# Altium footprint library Fasteners & Fixings.PcbLib: 118 footprints (part 6 of 8)
Each footprint in its own frame and in the unit in brackets; x right, y up, seen from the top. Pads: shape width x height; smd on the part's side, far side on the other; paste and mask are expansions set on the pad; w line width, h text height; cw(c..) or ccw(c..) is an arc to the next point about the centre after c.
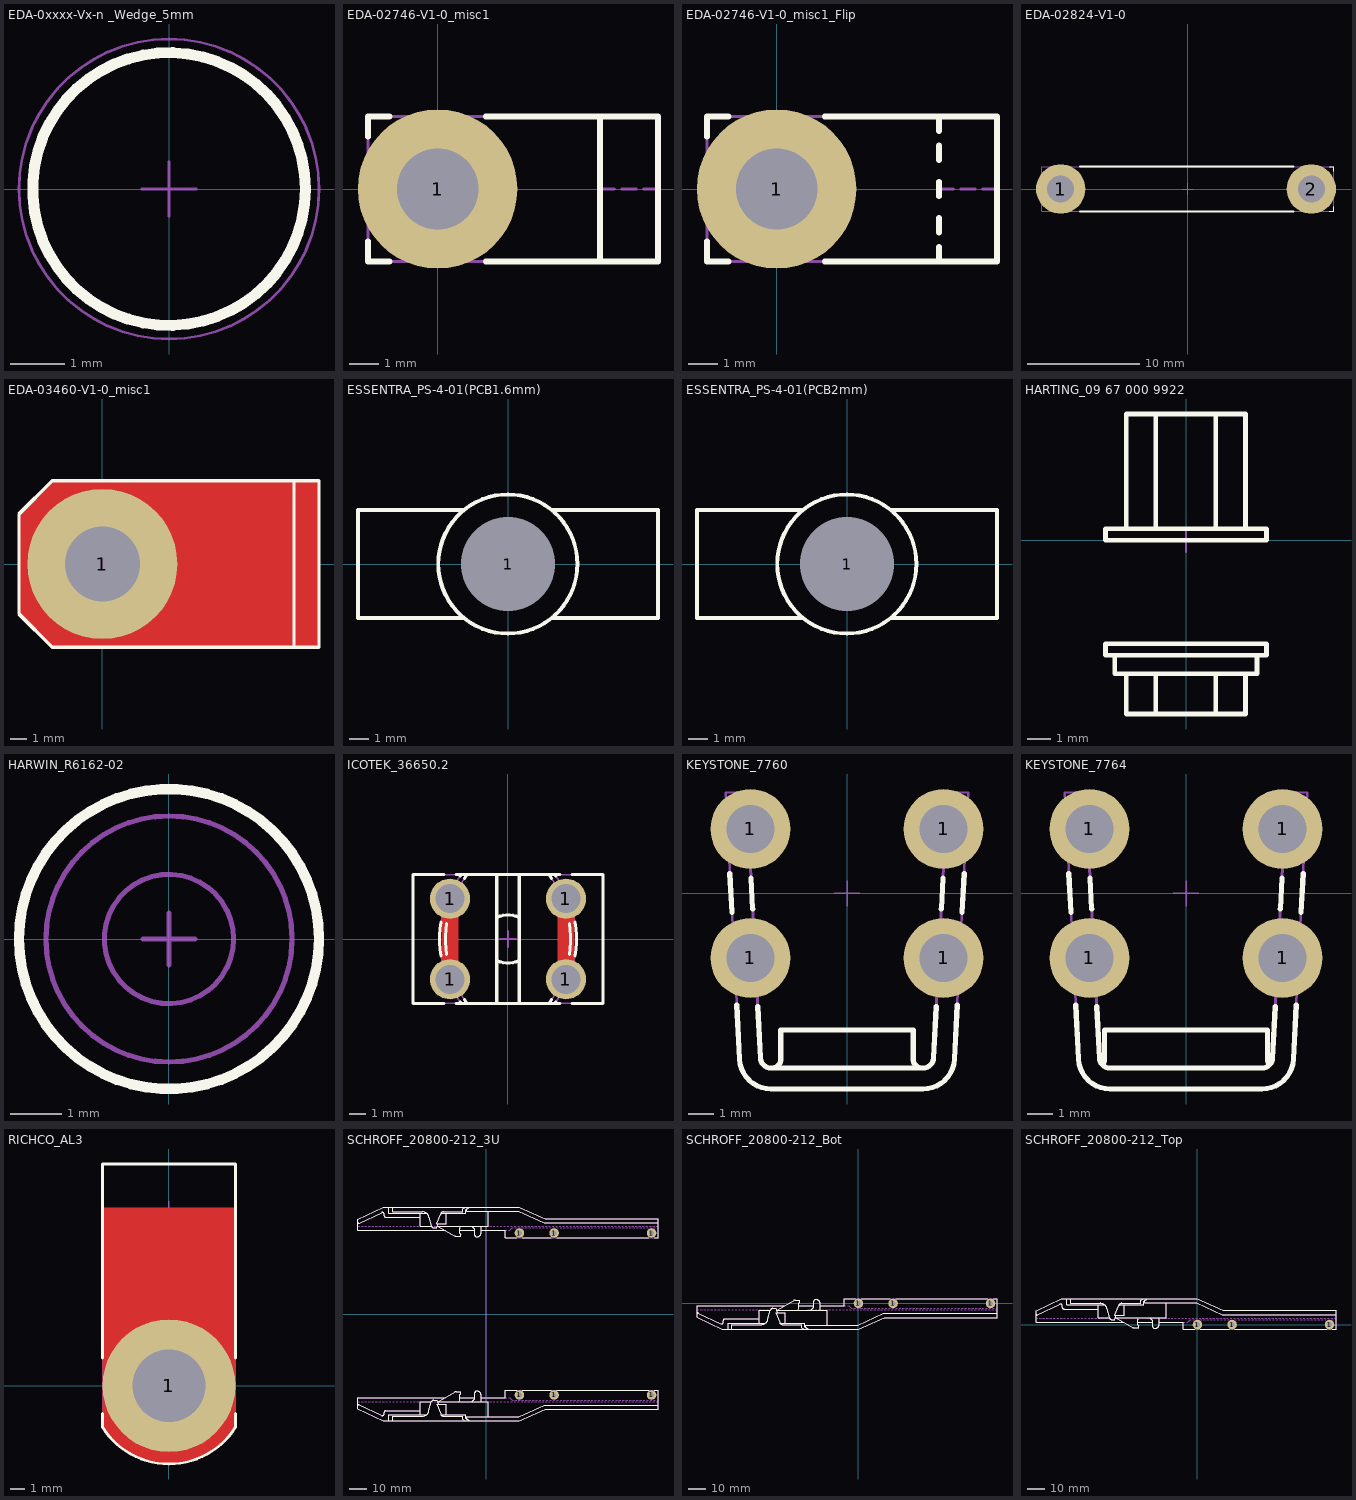
[diagram p5: the footprints below, top view; thin cyan lines are the x and y axes]

## EDA-0xxxx-Vx-n _Wedge_5mm [mm] "5mm Diameter, 2.5mm Heigh, Wedge Part For TE/EPC Beds Of Nails"
height 2.5
Top Overlay:
  circle w0.2: c0,0 r2.5
Mechanical 8:
  lines w0.05: -0.5,0 0,0 ; 0,-0.5 0,0 ; 0,0.5 0,0 ; 0.5,0 0,0
Mechanical 14:
  circle w0.1: c0,0 r2.5
Mechanical 15:
  circle w0.05: c0,0 r2.75
3D body "EDA-0xxxx-Vx-n _Wedge_5mm.stp": height 2.5, standoff 0, extent -2.5,-2.499 2.5,2.499

## EDA-02746-V1-0_misc1 [mm] "10x10x2mm Fixing Bracket with 2.7mm Holes Diameter"
height 10
pads (1):
  round 5.5 hole 2.8: 1(0,0)
Top Overlay:
  lines w0.2: -2.4,-1.8 -2.4,-2.5 -1.658,-2.5 ; -2.4,1.8 -2.4,2.5 -1.658,2.5 ; 1.658,-2.5 7.6,-2.5 7.6,2.5 1.658,2.5 ; 5.6,-2.5 5.6,2.5
Mechanical 8:
  lines w0.1: -0.5,0 0,0 ; 0,-0.5 0,0 ; 0,0.5 0,0 ; 0.5,0 0,0 ; 5.6,0 6.1,0 ; 6.35,0 6.6,0 6.85,0 ; 7.1,0 7.6,0
Mechanical 14:
  circle w0.1: c0,0 r1.35
  lines w0.1: 5.6,-2.5 5.6,2.5 ; -2.4,-2.5 7.6,-2.5 7.6,2.5 -2.4,2.5 -2.4,-2.5
3D body "EDA-02746-V1-0_misc1.stp": height 10, standoff 0, extent -2.4,-2.5 7.6,2.5

## EDA-02746-V1-0_misc1_Flip [mm] "10x10x2mm Fixing Bracket with 2.7mm Holes Diameter"
height 10
pads (1):
  round 5.5 hole 2.8: 1(0,0)
Top Overlay:
  lines w0.2: -2.4,-1.8 -2.4,-2.5 -1.658,-2.5 ; -2.4,1.8 -2.4,2.5 -1.658,2.5 ; 1.658,-2.5 7.6,-2.5 7.6,2.5 1.658,2.5 ; 5.6,-2.5 5.6,-2 ; 5.6,-1.5 5.6,-1 ; 5.6,-0.25 5.6,0.25 ; 5.6,1 5.6,1.5 ; 5.6,2 5.6,2.5
Mechanical 8:
  lines w0.1: -0.5,0 0,0 ; 0,-0.5 0,0 ; 0,0.5 0,0 ; 0.5,0 0,0 ; 5.6,0 6.1,0 ; 6.35,0 6.6,0 6.85,0 ; 7.1,0 7.6,0
Mechanical 14:
  circle w0.1: c0,0 r1.35
  lines w0.1: 5.6,-2.5 5.6,-2 ; 5.6,-1.5 5.6,-1 ; 5.6,-0.25 5.6,0.25 ; 5.6,1 5.6,1.5 ; 5.6,2 5.6,2.5 ; -2.4,-2.5 7.6,-2.5 7.6,2.5 -2.4,2.5 -2.4,-2.5
3D body "EDA-02746-V1-0_misc1_Flip.stp": height 2, standoff -8, extent -2.4,-2.5 7.6,2.5

## EDA-02824-V1-0 [mm] "Retaining Clip for VTTX (and VTRX) Module"
height 6.6
pads (2):
  round 4.4 hole 2.4: 1(-11.3,0) 2(11,0)
Top Overlay:
  lines w0.1: 12.582,-2 13,-2 13,-1.582 ; 12.582,2 13,2 13,1.582
  lines w0.2: -9.561,-2 9.418,-2 ; -9.561,2 9.418,2
Mechanical 8:
  lines w0.1: -11.8,0 -11.3,0 ; -11.3,-0.5 -11.3,0 ; -11.3,0.5 -11.3,0 ; -10.8,0 -11.3,0 ; -0.5,0 0,0 ; 0,-0.5 0,0 ; 0,0.5 0,0 ; 0.5,0 0,0 ; 10.5,0 11,0 ; 11,-0.5 11,0 ; 11,0.5 11,0 ; 11.5,0 11,0
Mechanical 14:
  circle w0.1: c-11.3,0 r1
  circle w0.1: c11,0 r1
  lines w0.1: -13,-2 13,-2 13,2 -13,2 -13,-2
3D body "EDA-02824-V1-0.stp": height 6.6, standoff 0, extent -13,-2 13,2

## EDA-03460-V1-0_misc1 [mm] "18x30x10mm Fixing Bracket with 4.2mm Holes Diameter"
height 30
pads (1):
  round 9 hole 4.5: 1(0,0)
Top Layer:
  region: -5,3 -3,5 13,5 13,-5 -3,-5 -5,-3
Top Overlay:
  lines w0.2: 11.5,-5 11.5,5 ; -5,-3 -5,3 -3,5 13,5 13,-5 -3,-5 -5,-3
Mechanical 8:
  lines w0.05: -0.5,0 0,0 ; 0,-0.5 0,0 ; 0,0.5 0,0 ; 0.5,0 0,0 ; 11.75,0 12,0 12.25,0 ; 12.5,0 13,0
Mechanical 14:
  circle w0.1: c0,0 r2.1
  lines w0.1: 11.5,-5 11.5,5 ; -5,-3 -5,3 -3,5 13,5 13,-5 -3,-5 -5,-3
3D body "EDA-03460-V1-0_misc1.stp": height 30, standoff 0, extent -5,-5 13,5

## ESSENTRA_PS-4-01(PCB1.6mm) [mm] "Push Spacer for 0.79-1.98mm Panel Thickness, Minimum Spacing Height 6.4mm"
height 6.4
pads (1):
  round 1 hole 4.8 unplated mask+1.9: 1(0,0)
Top Overlay:
  circle w0.2: c-0.015,0 r3.55
  lines w0.2: -2.266,-2.745 -7.661,-2.745 -7.661,2.745 -2.266,2.745 ; 2.236,-2.745 7.647,-2.745 7.647,2.745 2.236,2.745
Mechanical 8:
  lines w0.1: -0.5,0 0,0 ; 0,-0.5 0,0 ; 0,0.5 0,0 ; 0.5,0 0,0
Mechanical 14:
  circle w0.1: c-0.015,0 r3.55
  lines w0.1: -2.266,-2.745 -7.661,-2.745 -7.661,2.745 -2.266,2.745 ; 2.236,-2.745 7.647,-2.745 7.647,2.745 2.236,2.745
3D body "ESSENTRA_PS-4-01(PCB1.6mm).stp": height 7.56, standoff -6.88, extent -7.608,-3.548 7.596,3.548

## ESSENTRA_PS-4-01(PCB2mm) [mm] "Push Spacer for 0.79-1.98mm Panel Thickness, Minimum Spacing Height 6.4mm"
height 6.4
pads (1):
  round 1 hole 4.8 unplated mask+1.9: 1(0,0)
Top Overlay:
  circle w0.2: c-0.015,0 r3.55
  lines w0.2: -2.266,-2.745 -7.661,-2.745 -7.661,2.745 -2.266,2.745 ; 2.236,-2.745 7.647,-2.745 7.647,2.745 2.236,2.745
Mechanical 8:
  lines w0.1: -0.5,0 0,0 ; 0,-0.5 0,0 ; 0,0.5 0,0 ; 0.5,0 0,0
Mechanical 14:
  circle w0.1: c-0.015,0 r3.55
  lines w0.1: -2.266,-2.745 -7.661,-2.745 -7.661,2.745 -2.266,2.745 ; 2.236,-2.745 7.647,-2.745 7.647,2.745 2.236,2.745
3D body "ESSENTRA_PS-4-01(PCB2mm).stp": height 7.16, standoff -7.28, extent -7.66,-3.548 7.646,3.548

## HARTING_09 67 000 9922 [mm] "13mm Length, UNC 4-40/UNV4-40 D-Sub Female Screw Lock"
height 7
Top Overlay:
  lines w0.2: -3.1,-5 -3.1,-5.8 3.1,-5.8 ; -2.607,-5.8 -2.607,-7.55 2.589,-7.55 2.589,-5.8 ; -2.607,0.5 -2.607,5.5 2.589,5.5 2.589,0.5 ; -1.308,-7.55 -1.308,-5.8 ; -1.308,0.5 -1.308,5.5 ; 1.29,-7.55 1.29,-5.8 ; 1.29,0.5 1.29,5.5 ; 3.09,-5.8 3.09,-5 ; -3.5,-5 3.5,-5 3.5,-4.5 -3.5,-4.5 -3.5,-5 ; -3.5,0 3.5,0 3.5,0.5 -3.5,0.5 -3.5,0
Mechanical 8:
  lines w0.1: -0.5,0 0,0 ; 0,-0.5 0,0 ; 0,0.5 0,0 ; 0.5,0 0,0
Mechanical 14:
  lines w0.1: -3.1,-5 -3.1,-5.8 3.1,-5.8 ; -2.607,-5.8 -2.607,-7.55 2.589,-7.55 2.589,-5.8 ; -2.607,0.5 -2.607,5.5 2.589,5.5 2.589,0.5 ; -1.308,-7.55 -1.308,-5.8 ; -1.308,0.5 -1.308,5.5 ; 1.29,-7.55 1.29,-5.8 ; 1.29,0.5 1.29,5.5 ; 3.09,-5.8 3.09,-5 ; -3.5,-5 3.5,-5 3.5,-4.5 -3.5,-4.5 -3.5,-5 ; -3.5,0 3.5,0 3.5,0.5 -3.5,0.5 -3.5,0
3D body "HARTING_09 67 000 9922_Part2.stp": height 3.5, standoff -3.5, extent -3.5,-7.55 3.5,-4.5
3D body "HARTING_09 67 000 9922_Part1.stp": height 3.5, standoff -3.5, extent -3.5,-7.5 3.5,5.5

## HARWIN_R6162-02 [mm] "Metric Female Unthreaded Round Brass Spacer/Pillar, Length 6mm, External Dia. 4.76mm, Internal Dia. 2.54mm"
height 6
Top Overlay:
  circle w0.2: c0,0 r2.9
Mechanical 8:
  lines w0.1: -0.5,0 0,0 ; 0,-0.5 0,0 ; 0,0.5 0,0 ; 0.5,0 0,0
Mechanical 14:
  circle w0.1: c0,0 r2.38
  circle w0.1: c0,0 r1.25
3D body "HARWIN_R6162-02.stp": height 6, standoff 0, extent -2.38,-2.38 2.38,2.38

## ICOTEK_36650.2 [mm] "EMC Shield Cable Clamp (3-6mm Diameter Clamping range)"
height 20
pads (4):
  round 2.5 hole 1.8: 1(-3.6,-2.5) 1(-3.6,2.5) 1(3.6,-2.5) 1(3.6,2.5)
Top Layer:
  region: 3.1,3.3 4.1,3.3 4.1,-3.3 3.1,-3.3
  region: -4.1,3.3 -3.1,3.3 -3.1,-3.3 -4.1,-3.3
Top Overlay:
  lines w0.2: -4.165,-1.057 cw(c2.346,0) -4.165,1.057 ; -3.99,-4 -5.9,-4 -5.9,4 -3.99,4 ; -3.81,-0.964 cw(c2.715,0) -3.81,0.964 ; -3.209,-4 3.21,-4 ; -3.209,4 3.21,4 ; -2.964,-3.913 ccw(c2.346,0) -2.899,-4 ; -2.964,3.913 cw(c2.346,0) -2.899,4 ; -2.702,-3.764 ccw(c2.715,0) -2.53,-4 ; -2.702,3.764 cw(c2.715,0) -2.53,4 ; -0.7,-4 -0.7,4 ; -0.7,-1.327 ccw(c0,0) 0.7,-1.327 ; -0.7,1.327 cw(c0,0) 0.7,1.327 ; 0.7,-4 0.7,4 ; 2.53,-4 ccw(c-2.715,0) 2.702,-3.764 ; 2.53,4 cw(c-2.715,0) 2.702,3.764 ; 2.899,-4 ccw(c-2.346,0) 2.964,-3.913 ; 2.899,4 cw(c-2.346,0) 2.964,3.913 ; 3.811,-0.964 ccw(c-2.715,0) 3.811,0.964 ; 3.991,-4 5.9,-4 ; 3.991,4 5.9,4 ; 4.165,-1.057 ccw(c-2.346,0) 4.165,1.057 ; 5.9,-4 5.9,4 ; 5.9,-4 5.9,4
Mechanical 8:
  lines w0.1: -4.1,-2.5 -3.6,-2.5 ; -4.1,2.5 -3.6,2.5 ; -3.6,-3 -3.6,-2.5 ; -3.6,-2 -3.6,-2.5 ; -3.6,2 -3.6,2.5 ; -3.6,3 -3.6,2.5 ; -3.1,-2.5 -3.6,-2.5 ; -3.1,2.5 -3.6,2.5 ; -0.5,0 0,0 ; 0,-0.5 0,0 ; 0,0.5 0,0 ; 0.5,0 0,0 ; 3.1,-2.5 3.6,-2.5 ; 3.1,2.5 3.6,2.5 ; 3.6,-3 3.6,-2.5 ; 3.6,-2 3.6,-2.5 ; 3.6,2 3.6,2.5 ; 3.6,3 3.6,2.5 ; 4.1,-2.5 3.6,-2.5 ; 4.1,2.5 3.6,2.5
Mechanical 14:
  lines w0.1: -2.899,-4 cw(c2.346,0) -2.899,4 ; -2.53,-4 cw(c2.715,0) -2.53,4 ; -0.7,-4 -0.7,4 ; -0.7,-1.327 ccw(c0,0) 0.7,-1.327 ; -0.7,1.327 cw(c0,0) 0.7,1.327 ; 0.7,-4 0.7,4 ; 2.53,-4 ccw(c-2.715,0) 2.53,4 ; 2.899,-4 ccw(c-2.346,0) 2.899,4 ; 5.9,-4 5.9,4 ; 5.9,-4 5.9,4 ; 5.9,-4 -5.9,-4 -5.9,4 5.9,4
3D body "ICOTEK_36650.2.stp": height 17.73, standoff -2.6, extent -5.9,-4 5.9,4

## KEYSTONE_7760 [mm] "M3 PC Mount Terminal, Horizontal"
height 7.92
pads (4):
  round 3.1 hole 1.85: 1(-3.745,-2.5) 1(-3.745,2.5) 1(3.745,-2.5) 1(3.745,2.5)
Top Overlay:
  lines w0.2: -4.543,0.776 -4.463,-0.741 ; -4.276,-4.324 -4.166,-6.425 ccw(c-2.948,-6.361) -2.948,-7.58 2.948,-7.58 ccw(c2.948,-6.361) 4.166,-6.425 4.276,-4.324 ; -3.72,0.6 -3.657,-0.602 ; -3.459,-4.378 -3.354,-6.382 ccw(c-2.948,-6.361) -2.948,-6.767 2.948,-6.767 ccw(c2.948,-6.361) 3.354,-6.382 3.459,-4.378 ; -2.908,-6.767 ccw(c-2.908,-6.425) -2.565,-6.425 -2.565,-5.294 2.565,-5.294 2.565,-6.425 ccw(c2.908,-6.425) 2.908,-6.767 ; 3.657,-0.602 3.72,0.6 ; 4.463,-0.741 4.543,0.776
Mechanical 8:
  lines w0.05: -4.245,-2.5 -3.745,-2.5 ; -4.245,2.5 -3.745,2.5 ; -3.745,-3 -3.745,-2.5 ; -3.745,-2 -3.745,-2.5 ; -3.745,2 -3.745,2.5 ; -3.745,3 -3.745,2.5 ; -3.245,-2.5 -3.745,-2.5 ; -3.245,2.5 -3.745,2.5 ; -0.5,0 0,0 ; 0,-0.5 0,0 ; 0,0.5 0,0 ; 0.5,0 0,0 ; 3.245,-2.5 3.745,-2.5 ; 3.245,2.5 3.745,2.5 ; 3.745,-3 3.745,-2.5 ; 3.745,-2 3.745,-2.5 ; 3.745,2 3.745,2.5 ; 3.745,3 3.745,2.5 ; 4.245,-2.5 3.745,-2.5 ; 4.245,2.5 3.745,2.5
Mechanical 14:
  lines w0.1: -2.908,-6.767 ccw(c-2.908,-6.425) -2.565,-6.425 -2.565,-5.294 2.565,-5.294 2.565,-6.425 ccw(c2.908,-6.425) 2.908,-6.767 ; -4.707,3.901 -3.895,3.943 -3.354,-6.382 ccw(c-2.948,-6.361) -2.948,-6.767 2.948,-6.767 ccw(c2.948,-6.361) 3.354,-6.382 3.895,3.943 4.707,3.901 4.166,-6.425 cw(c2.948,-6.361) 2.948,-7.58 -2.948,-7.58 cw(c-2.948,-6.361) -4.166,-6.425 -4.707,3.901
3D body "KEYSTONE_7760.stp": height 7.92, standoff -5.08, extent -4.707,-7.58 4.707,3.943

## KEYSTONE_7764 [mm] "M4 PC Mount Terminal, Horizontal"
height 7.92
pads (4):
  round 3.1 hole 1.85: 1(-3.745,-2.5) 1(-3.745,2.5) 1(3.745,-2.5) 1(3.745,2.5)
Top Overlay:
  lines w0.2: -4.543,0.776 -4.463,-0.741 ; -4.276,-4.324 -4.166,-6.425 ccw(c-2.948,-6.361) -2.948,-7.58 2.948,-7.58 ccw(c2.948,-6.361) 4.166,-6.425 4.276,-4.324 ; -3.72,0.6 -3.657,-0.602 ; -3.459,-4.378 -3.354,-6.382 ccw(c-2.948,-6.361) -2.948,-6.767 2.948,-6.767 ccw(c2.948,-6.361) 3.354,-6.382 3.459,-4.378 ; -3.241,-6.643 ccw(c-3.505,-6.425) -3.162,-6.425 -3.162,-5.294 3.162,-5.294 3.162,-6.425 ccw(c3.505,-6.425) 3.241,-6.643 ; 3.657,-0.602 3.72,0.6 ; 4.463,-0.741 4.543,0.776 ; -2.565,-5.294 2.565,-5.294 -2.565,-5.294
Mechanical 8:
  lines w0.05: -4.245,-2.5 -3.745,-2.5 ; -4.245,2.5 -3.745,2.5 ; -3.745,-3 -3.745,-2.5 ; -3.745,-2 -3.745,-2.5 ; -3.745,2 -3.745,2.5 ; -3.745,3 -3.745,2.5 ; -3.245,-2.5 -3.745,-2.5 ; -3.245,2.5 -3.745,2.5 ; -0.5,0 0,0 ; 0,-0.5 0,0 ; 0,0.5 0,0 ; 0.5,0 0,0 ; 3.245,-2.5 3.745,-2.5 ; 3.245,2.5 3.745,2.5 ; 3.745,-3 3.745,-2.5 ; 3.745,-2 3.745,-2.5 ; 3.745,2 3.745,2.5 ; 3.745,3 3.745,2.5 ; 4.245,-2.5 3.745,-2.5 ; 4.245,2.5 3.745,2.5
Mechanical 14:
  lines w0.1: -3.241,-6.643 ccw(c-3.505,-6.425) -3.162,-6.425 -3.162,-5.294 3.162,-5.294 3.162,-6.425 ccw(c3.505,-6.425) 3.241,-6.643 ; -2.565,-5.294 2.565,-5.294 ; -4.707,3.901 -3.895,3.943 -3.354,-6.382 ccw(c-2.948,-6.361) -2.948,-6.767 2.948,-6.767 ccw(c2.948,-6.361) 3.354,-6.382 3.895,3.943 4.707,3.901 4.166,-6.425 cw(c2.948,-6.361) 2.948,-7.58 -2.948,-7.58 cw(c-2.948,-6.361) -4.166,-6.425 -4.707,3.901
3D body "KEYSTONE_7764.stp": height 7.92, standoff -5.08, extent -4.707,-7.58 4.707,3.943

## RICHCO_AL3 [mm] "Aluminium Cable Clamp 4.8mm Diameter, Fixing Hole 5.2mm"
height 5.6
pads (1):
  round 9.5 hole 5.2: 1(0,0)
Top Layer:
  region: -4.75,-2.966 -4.75,12.7 4.75,12.7 4.75,-2.966 4.562,-3.267 4.113,-3.817 3.598,-4.306 3.026,-4.725 2.405,-5.07 1.746,-5.333 1.059,-5.51 0.355,-5.6 -0.355,-5.6 -1.059,-5.51 -1.746,-5.333 -2.405,-5.07 -3.026,-4.725 -3.598,-4.306 -4.113,-3.817 -4.562,-3.267
Top Overlay:
  lines w0.2: -4.75,-1.99 -4.75,-2.966 ccw(c0,0) 4.75,-2.966 4.75,-1.99 ; -4.75,1.99 -4.75,15.863 4.75,15.863 4.75,1.99
Mechanical 8:
  circle w0.1: c0,0 r4.75
  lines w0.1: -4.75,12.7 4.75,12.7 ; -0.5,0 0,0 ; -0.5,4.933 0,4.933 ; -0.5,12.7 0,12.7 ; 0,-0.5 0,0 ; 0,0.5 0,0 ; 0,4.433 0,4.933 ; 0,5.433 0,4.933 ; 0,12.2 0,12.7 ; 0,13.2 0,12.7 ; 0.5,0 0,0 ; 0.5,4.933 0,4.933 ; 0.5,12.7 0,12.7 ; -4.75,-2.966 ccw(c0,0) 4.75,-2.966 4.75,15.863 -4.75,15.863 -4.75,-2.966
Mechanical 14:
  circle w0.1: c0,0 r2.6
  lines w0.1: -4.75,-2.966 ccw(c0,0) 4.75,-2.966 4.75,15.863 -4.75,15.863 -4.75,-2.966
3D body "RICHCO_AL3.stp": height 6.4, standoff 0, extent -4.75,-5.6 4.75,15.9

## SCHROFF_20800-212_3U [mm] "Long Guide Rail (173mm)  With Locking Lever (Include Rail, Rail Bottom, Panhead screw M2.5 And Square nut M2.5)"
height 14.9
pads (6):
  round 5.5 hole 2.8: 1(19.27,-46.7) 1(19.27,46.7) 1(39.27,-46.7) 1(39.27,46.7) 1(95.47,-46.7) 1(95.47,46.7)
Top Overlay:
  lines w0.2: -53.73,-61.7 -53.73,-58.9 -36.793,-58.9 ccw(c-36.793,-54.9) -32.93,-55.935 -31.53,-50.712 cw(c-30.081,-51.1) -30.081,-49.6 -28.498,-49.6 -27.53,-52 -28.53,-52 ; -53.73,61.7 -53.73,58.9 -36.793,58.9 cw(c-36.793,54.9) -32.93,55.935 -31.53,50.712 ccw(c-30.081,51.1) -30.081,49.6 -28.498,49.6 -27.53,52 -28.53,52 ; -34.533,-58.2 -37.83,-58.2 ; -34.533,58.2 -37.83,58.2 ; -31.495,-50.6 -37.83,-50.6 -37.83,-58.2 ; -31.495,50.6 -37.83,50.6 -37.83,58.2 ; -28.095,-50.6 1.37,-50.6 1.37,-59.2 ; -28.095,50.6 1.37,50.6 1.37,59.2 ; -27.755,-50.6 -19.299,-45.718 -18.174,-45.068 cw(c-17.174,-46.8) -17.174,-44.8 -14.63,-44.8 -14.63,-45.718 -14.63,-46.1 -15.13,-46.6 -15.13,-49.4 -15.543,-50.6 ; -27.755,50.6 -19.299,45.718 -18.174,45.068 ccw(c-17.174,46.8) -17.174,44.8 -14.63,44.8 -14.63,45.718 -14.63,46.1 -15.13,46.6 -15.13,49.4 -15.543,50.6 ; -25.941,-58.172 ccw(c-25.53,-55.2) -25.53,-58.2 -23.03,-58.2 -23.03,-52 -28.53,-52 ; -25.941,58.172 cw(c-25.53,55.2) -25.53,58.2 -23.03,58.2 -23.03,52 -28.53,52 ; -25.918,-58.2 -11.83,-58.2 -11.83,-60.257 -9.33,-61.7 -11.03,-60.719 -11.03,-59.2 18.793,-59.2 33.693,-52.5 99.17,-52.5 ; -25.918,58.2 -11.83,58.2 -11.83,60.257 -9.33,61.7 -11.03,60.719 -11.03,59.2 18.793,59.2 33.693,52.5 99.17,52.5 ; -23.598,-48.2 -73.83,-48.2 -73.83,-54.7 ; -23.598,48.2 -73.83,48.2 -73.83,54.7 ; -15.13,-48.2 -6.43,-48.2 ; -15.13,48.2 -6.43,48.2 ; -11.73,-61.7 -13.43,-60.719 -13.43,-58.9 -24.398,-58.9 cw(c-24.398,-56.9) -26.253,-57.648 -28.53,-52 ; -11.73,61.7 -13.43,60.719 -13.43,58.9 -24.398,58.9 ccw(c-24.398,56.9) -26.253,57.648 -28.53,52 ; -8.23,-50.6 -6.723,-49.093 ccw(c-7.43,-48.386) -6.43,-48.386 -6.43,-45.506 cw(c-5.423,-45.503) -5.33,-44.5 cw(c-5.33,-47) -2.83,-47 -2.83,-50.6 ; -8.23,50.6 -6.723,49.093 cw(c-7.43,48.386) -6.43,48.386 -6.43,45.506 ccw(c-5.423,45.503) -5.33,44.5 ccw(c-5.33,47) -2.83,47 -2.83,50.6 ; -2.83,-48.2 10.97,-48.2 ; -2.83,48.2 10.97,48.2 ; 17.648,-44 10.97,-44 ; 17.648,44 10.97,44 ; 20.893,-44 37.648,-44 ; 20.893,44 37.648,44 ; 40.893,-44 93.848,-44 ; 40.893,44 93.848,44 ; 97.093,-44 99.17,-44 99.17,-55 34.17,-55 19.27,-61.7 -59.23,-61.7 ; 97.093,44 99.17,44 99.17,55 34.17,55 19.27,61.7 -59.23,61.7 ; -73.83,-54.7 -73.83,-52.722 cw(c-73.33,-52.722) -73.114,-52.271 -60.162,-58.481 ccw(c-59.73,-57.579) -58.73,-57.579 -58.73,-56.7 cw(c-57.73,-56.7) -57.73,-55.7 -37.83,-55.7 -37.83,-58.2 ; -73.83,-54.7 -59.23,-61.7 ; -73.83,54.7 -73.83,52.722 ccw(c-73.33,52.722) -73.114,52.271 -60.162,58.481 cw(c-59.73,57.579) -58.73,57.579 -58.73,56.7 ccw(c-57.73,56.7) -57.73,55.7 -37.83,55.7 -37.83,58.2 ; -73.83,54.7 -59.23,61.7 ; -59.23,-61.7 -56.23,-61.7 -56.23,-58.2 -37.83,-58.2 ; -59.23,61.7 -56.23,61.7 -56.23,58.2 -37.83,58.2 ; 10.97,-48.2 10.97,-44 ; 10.97,-48.2 10.97,-44 ; 10.97,44 10.97,48.2 ; 10.97,44 10.97,48.2
Mechanical 8:
  drawing of 291 lines, arcs and shapes, not listed
  text "PCB Edge" at -1.425,-5.275 h1.5
Mechanical 14:
  drawing of 160 lines, arcs and shapes, not listed
3D body "SCHROFF_20800-212.stp": height 12.5, standoff -3.5, extent -73.83,-61.7 99.17,61.7

## SCHROFF_20800-212_Bot [mm] "Bottm Long Guide Rail (173mm)  With Locking Lever"
height 14.9
pads (3):
  round 5.5 hole 2.8: 1(0,0) 1(20,0) 1(76.2,0)
Top Overlay:
  lines w0.2: -73,-15 -73,-12.2 -56.063,-12.2 ccw(c-56.063,-8.2) -52.2,-9.235 -50.8,-4.012 cw(c-49.351,-4.4) -49.351,-2.9 -47.768,-2.9 -46.8,-5.3 -47.8,-5.3 ; -53.803,-11.5 -57.1,-11.5 ; -50.765,-3.9 -57.1,-3.9 -57.1,-11.5 ; -47.365,-3.9 -17.9,-3.9 -17.9,-12.5 ; -47.025,-3.9 -38.569,0.982 -37.444,1.632 cw(c-36.444,-0.1) -36.444,1.9 -33.9,1.9 -33.9,0.982 -33.9,0.6 -34.4,0.1 -34.4,-2.7 -34.813,-3.9 ; -45.211,-11.472 ccw(c-44.8,-8.5) -44.8,-11.5 -42.3,-11.5 -42.3,-5.3 -47.8,-5.3 ; -45.188,-11.5 -31.1,-11.5 -31.1,-13.557 -28.6,-15 -30.3,-14.019 -30.3,-12.5 -0.477,-12.5 14.423,-5.8 79.9,-5.8 ; -42.868,-1.5 -93.1,-1.5 -93.1,-8 ; -34.4,-1.5 -25.7,-1.5 ; -31,-15 -32.7,-14.019 -32.7,-12.2 -43.668,-12.2 cw(c-43.668,-10.2) -45.523,-10.948 -47.8,-5.3 ; -27.5,-3.9 -25.993,-2.393 ccw(c-26.7,-1.686) -25.7,-1.686 -25.7,1.194 cw(c-24.693,1.197) -24.6,2.2 cw(c-24.6,-0.3) -22.1,-0.3 -22.1,-3.9 ; -22.1,-1.5 -8.3,-1.5 ; -1.622,2.7 -8.3,2.7 ; 1.622,2.7 18.378,2.7 ; 21.623,2.7 74.578,2.7 ; 77.823,2.7 79.9,2.7 79.9,-8.3 14.9,-8.3 0,-15 -78.5,-15 ; -93.1,-8 -78.5,-15 ; -93.1,-8 -93.1,-6.022 cw(c-92.6,-6.022) -92.384,-5.571 -79.432,-11.781 ccw(c-79,-10.879) -78,-10.879 -78,-10 cw(c-77,-10) -77,-9 -57.1,-9 -57.1,-11.5 ; -78.5,-15 -75.5,-15 -75.5,-11.5 -57.1,-11.5 ; -8.3,-1.5 -8.3,2.7 ; -8.3,-1.5 -8.3,2.7
Mechanical 8:
  lines w0.1: -93.1,-3.8 -92.1,-3.8 ; -91.1,-3.8 -90.1,-3.8 ; -89.1,-3.8 -88.1,-3.8 ; -87.1,-3.8 -86.1,-3.8 ; -85.1,-3.8 -84.1,-3.8 ; -83.1,-3.8 -82.1,-3.8 ; -81.1,-3.8 -80.1,-3.8 ; -79.1,-3.8 -78.1,-3.8 ; -77.1,-3.8 -76.1,-3.8 ; -75.1,-3.8 -74.1,-3.8 ; -73.1,-3.8 -72.1,-3.8 ; -71.1,-3.8 -70.1,-3.8 ; -69.1,-3.8 -68.1,-3.8 ; -67.1,-3.8 -66.1,-3.8 ; -65.1,-3.8 -64.1,-3.8 ; -63.1,-3.8 -62.1,-3.8 ; -61.1,-3.8 -60.1,-3.8 ; -59.1,-3.8 -58.1,-3.8 ; -57.1,-3.8 -56.1,-3.8 ; -55.1,-3.8 -54.1,-3.8 ; -53.1,-3.8 -52.1,-3.8 ; -29.1,-3.8 -28.1,-3.8 ; -27.1,-3.8 -26.1,-3.8 ; -25.1,-3.8 -24.1,-3.8 ; -23.1,-3.8 -22.1,-3.8 ; -21.1,-3.8 -20.1,-3.8 ; -19.1,-3.8 -18.1,-3.8 ; -17.1,-3.8 -16.1,-3.8 ; -15.1,-3.8 -14.1,-3.8 ; -13.1,-3.8 -12.1,-3.8 ; -11.1,-3.8 -10.1,-3.8 ; -9.1,-3.8 -8.1,-3.8 ; -8.3,-1.5 -7.3,-1.5 ; -7.1,-3.8 -6.1,-3.8 ; -6.3,-1.5 -5.5,-1.5 -4.1,-2.9 -3.6,-2.9 ; -5.1,-3.8 -4.1,-3.8 ; -3.1,-3.8 -2.1,-3.8 ; -2.6,-2.9 -1.6,-2.9 ; -1.1,-3.8 -0.1,-3.8 ; -0.6,-2.9 0.4,-2.9 ; -0.5,0 0,0 ; 0,0.5 0,0 ; 0.5,0 0,0 ; 0.9,-3.8 1.9,-3.8 ; 1.4,-2.9 2.4,-2.9 ; 2.9,-3.8 3.9,-3.8 ; 3.4,-2.9 4.4,-2.9 ; 4.9,-3.8 5.9,-3.8 ; 5.4,-2.9 6.4,-2.9 ; 6.9,-3.8 7.9,-3.8 ; 7.4,-2.9 8.4,-2.9 ; 8.9,-3.8 9.9,-3.8 ; 9.4,-2.9 10.4,-2.9 ; 10.9,-3.8 11.9,-3.8 ; 11.4,-2.9 12.4,-2.9 ; 12.9,-3.8 13.9,-3.8 ; 13.4,-2.9 14.4,-2.9 ; 14.9,-3.8 15.9,-3.8 ; 15.4,-2.9 16.4,-2.9 ; 16.9,-3.8 17.9,-3.8 ; 17.4,-2.9 18.4,-2.9 ; 18.9,-3.8 19.9,-3.8 ; 19.4,-2.9 20.4,-2.9 ; 19.5,0 20,0 ; 20,-0.5 20,0 ; 20,0.5 20,0 ; 20.5,0 20,0 ; 20.9,-3.8 21.9,-3.8 ; 21.4,-2.9 22.4,-2.9 ; 22.9,-3.8 23.9,-3.8 ; 23.4,-2.9 24.4,-2.9 ; 24.9,-3.8 25.9,-3.8 ; 25.4,-2.9 26.4,-2.9 ; 26.9,-3.8 27.9,-3.8 ; 27.4,-2.9 28.4,-2.9 ; 28.9,-3.8 29.9,-3.8 ; 29.4,-2.9 30.4,-2.9 ; 30.9,-3.8 31.9,-3.8 ; 31.4,-2.9 32.4,-2.9 ; 32.9,-3.8 33.9,-3.8 ; 33.4,-2.9 34.4,-2.9 ; 34.9,-3.8 35.9,-3.8 ; 35.4,-2.9 36.4,-2.9 ; 36.9,-3.8 37.9,-3.8 ; 37.4,-2.9 38.4,-2.9 ; 38.9,-3.8 39.9,-3.8 ; 39.4,-2.9 40.4,-2.9 ; 40.9,-3.8 41.9,-3.8 ; 41.4,-2.9 42.4,-2.9 ; 42.9,-3.8 43.9,-3.8 ; 43.4,-2.9 44.4,-2.9 ; 44.9,-3.8 45.9,-3.8 ; 45.4,-2.9 46.4,-2.9 ; 46.9,-3.8 47.9,-3.8 ; 47.4,-2.9 48.4,-2.9 ; 48.9,-3.8 49.9,-3.8 ; 49.4,-2.9 50.4,-2.9 ; 50.9,-3.8 51.9,-3.8 ; 51.4,-2.9 52.4,-2.9 ; 52.9,-3.8 53.9,-3.8 ; 53.4,-2.9 54.4,-2.9 ; 54.9,-3.8 55.9,-3.8 ; 55.4,-2.9 56.4,-2.9 ; 56.9,-3.8 57.9,-3.8 ; 57.4,-2.9 58.4,-2.9 ; 58.9,-3.8 59.9,-3.8 ; 59.4,-2.9 60.4,-2.9 ; 60.9,-3.8 61.9,-3.8 ; 61.4,-2.9 62.4,-2.9 ; 62.9,-3.8 63.9,-3.8 ; 63.4,-2.9 64.4,-2.9 ; 64.9,-3.8 65.9,-3.8 ; 65.4,-2.9 66.4,-2.9 ; 66.9,-3.8 67.9,-3.8 ; 67.4,-2.9 68.4,-2.9 ; 68.9,-3.8 69.9,-3.8 ; 69.4,-2.9 70.4,-2.9 ; 70.9,-3.8 71.9,-3.8 ; 71.4,-2.9 72.4,-2.9 ; 72.9,-3.8 73.9,-3.8 ; 73.4,-2.9 74.4,-2.9 ; 74.9,-3.8 75.9,-3.8 ; 75.4,-2.9 76.4,-2.9 ; 75.7,0 76.2,0 ; 76.2,-0.5 76.2,0 ; 76.2,0.5 76.2,0 ; 76.7,0 76.2,0 ; 76.9,-3.8 77.9,-3.8 ; 77.4,-2.9 78.4,-2.9 ; 78.9,-3.8 79.9,-3.8 ; 79.4,-2.9 79.9,-2.9
Mechanical 14:
  lines w0.1: -73,-15 -73,-12.2 -56.063,-12.2 ccw(c-56.063,-8.2) -52.2,-9.235 -50.8,-4.012 cw(c-49.351,-4.4) -49.351,-2.9 -47.768,-2.9 -46.8,-5.3 -47.8,-5.3 ; -53.803,-11.5 -57.1,-11.5 ; -50.765,-3.9 -57.1,-3.9 -57.1,-11.5 ; -47.365,-3.9 -17.9,-3.9 -17.9,-12.5 ; -47.025,-3.9 -38.569,0.982 -37.444,1.632 cw(c-36.444,-0.1) -36.444,1.9 -33.9,1.9 -33.9,0.982 -33.9,0.6 -34.4,0.1 -34.4,-2.7 -34.813,-3.9 ; -45.211,-11.472 ccw(c-44.8,-8.5) -44.8,-11.5 -42.3,-11.5 -42.3,-5.3 -47.8,-5.3 ; -45.188,-11.5 -31.1,-11.5 -31.1,-13.557 -28.6,-15 -30.3,-14.019 -30.3,-12.5 -0.477,-12.5 14.423,-5.8 79.9,-5.8 ; -42.868,-1.5 -93.1,-1.5 -93.1,-8 ; -34.4,-1.5 -25.7,-1.5 ; -31,-15 -32.7,-14.019 -32.7,-12.2 -43.668,-12.2 cw(c-43.668,-10.2) -45.523,-10.948 -47.8,-5.3 ; -27.5,-3.9 -25.993,-2.393 ccw(c-26.7,-1.686) -25.7,-1.686 -25.7,1.194 cw(c-24.693,1.197) -24.6,2.2 cw(c-24.6,-0.3) -22.1,-0.3 -22.1,-3.9 ; -22.1,-1.5 -8.3,-1.5 ; -93.1,-8 -78.5,-15 ; -93.1,-8 -93.1,-6.022 cw(c-92.6,-6.022) -92.384,-5.571 -79.432,-11.781 ccw(c-79,-10.879) -78,-10.879 -78,-10 cw(c-77,-10) -77,-9 -57.1,-9 -57.1,-11.5 ; -78.5,-15 -75.5,-15 -75.5,-11.5 -57.1,-11.5 ; -78.5,-15 0,-15 14.9,-8.3 79.9,-8.3 79.9,2.7 -8.3,2.7 ; -8.3,-1.5 -8.3,2.7 ; -8.3,-1.5 -8.3,2.7 ; -1.52,-1.3 cw(c0,0) -1.52,1.3 1.52,1.3 cw(c0,0) 1.52,-1.3 -1.52,-1.3 ; 18.48,-1.3 cw(c20,0) 18.48,1.3 21.52,1.3 cw(c20,0) 21.52,-1.3 18.48,-1.3 ; 74.68,-1.3 cw(c76.2,0) 74.68,1.3 77.72,1.3 cw(c76.2,0) 77.72,-1.3 74.68,-1.3
3D body "SCHROFF_20800-212_Bot.stp": height 12.5, standoff -3.5, extent -93.1,-15 79.9,2.7

## SCHROFF_20800-212_Top [mm] "Top Long Guide Rail (173mm)  With Locking Lever"
height 14.9
pads (3):
  round 5.5 hole 2.8: 1(0,0) 1(20,0) 1(76.2,0)
Top Overlay:
  lines w0.2: -73,15 -73,12.2 -56.063,12.2 cw(c-56.063,8.2) -52.2,9.235 -50.8,4.012 ccw(c-49.351,4.4) -49.351,2.9 -47.768,2.9 -46.8,5.3 -47.8,5.3 ; -53.803,11.5 -57.1,11.5 ; -50.765,3.9 -57.1,3.9 -57.1,11.5 ; -47.365,3.9 -17.9,3.9 -17.9,12.5 ; -47.025,3.9 -38.569,-0.982 -37.444,-1.632 ccw(c-36.444,0.1) -36.444,-1.9 -33.9,-1.9 -33.9,-0.982 -33.9,-0.6 -34.4,-0.1 -34.4,2.7 -34.813,3.9 ; -45.211,11.472 cw(c-44.8,8.5) -44.8,11.5 -42.3,11.5 -42.3,5.3 -47.8,5.3 ; -45.188,11.5 -31.1,11.5 -31.1,13.557 -28.6,15 -30.3,14.019 -30.3,12.5 -0.477,12.5 14.423,5.8 79.9,5.8 ; -42.868,1.5 -93.1,1.5 -93.1,8 ; -34.4,1.5 -25.7,1.5 ; -31,15 -32.7,14.019 -32.7,12.2 -43.668,12.2 ccw(c-43.668,10.2) -45.523,10.948 -47.8,5.3 ; -27.5,3.9 -25.993,2.393 cw(c-26.7,1.686) -25.7,1.686 -25.7,-1.194 ccw(c-24.693,-1.197) -24.6,-2.2 ccw(c-24.6,0.3) -22.1,0.3 -22.1,3.9 ; -22.1,1.5 -8.3,1.5 ; -1.622,-2.7 -8.3,-2.7 ; 1.622,-2.7 18.378,-2.7 ; 21.623,-2.7 74.578,-2.7 ; 77.823,-2.7 79.9,-2.7 79.9,8.3 14.9,8.3 0,15 -78.5,15 ; -93.1,8 -78.5,15 ; -93.1,8 -93.1,6.022 ccw(c-92.6,6.022) -92.384,5.571 -79.432,11.781 cw(c-79,10.879) -78,10.879 -78,10 ccw(c-77,10) -77,9 -57.1,9 -57.1,11.5 ; -78.5,15 -75.5,15 -75.5,11.5 -57.1,11.5 ; -8.3,-2.7 -8.3,1.5 ; -8.3,-2.7 -8.3,1.5
Mechanical 8:
  lines w0.1: -93.1,3.8 -92.1,3.8 ; -91.1,3.8 -90.1,3.8 ; -89.1,3.8 -88.1,3.8 ; -87.1,3.8 -86.1,3.8 ; -85.1,3.8 -84.1,3.8 ; -83.1,3.8 -82.1,3.8 ; -81.1,3.8 -80.1,3.8 ; -79.1,3.8 -78.1,3.8 ; -77.1,3.8 -76.1,3.8 ; -75.1,3.8 -74.1,3.8 ; -73.1,3.8 -72.1,3.8 ; -71.1,3.8 -70.1,3.8 ; -69.1,3.8 -68.1,3.8 ; -67.1,3.8 -66.1,3.8 ; -65.1,3.8 -64.1,3.8 ; -63.1,3.8 -62.1,3.8 ; -61.1,3.8 -60.1,3.8 ; -59.1,3.8 -58.1,3.8 ; -57.1,3.8 -56.1,3.8 ; -55.1,3.8 -54.1,3.8 ; -53.1,3.8 -52.1,3.8 ; -29.1,3.8 -28.1,3.8 ; -27.1,3.8 -26.1,3.8 ; -25.1,3.8 -24.1,3.8 ; -23.1,3.8 -22.1,3.8 ; -21.1,3.8 -20.1,3.8 ; -19.1,3.8 -18.1,3.8 ; -17.1,3.8 -16.1,3.8 ; -15.1,3.8 -14.1,3.8 ; -13.1,3.8 -12.1,3.8 ; -11.1,3.8 -10.1,3.8 ; -9.1,3.8 -8.1,3.8 ; -8.3,1.5 -7.3,1.5 ; -7.1,3.8 -6.1,3.8 ; -6.3,1.5 -5.5,1.5 -4.1,2.9 -3.6,2.9 ; -5.1,3.8 -4.1,3.8 ; -3.1,3.8 -2.1,3.8 ; -2.6,2.9 -1.6,2.9 ; -1.1,3.8 -0.1,3.8 ; -0.6,2.9 0.4,2.9 ; -0.5,0 0,0 ; 0,-0.5 0,0 ; 0.5,0 0,0 ; 0.9,3.8 1.9,3.8 ; 1.4,2.9 2.4,2.9 ; 2.9,3.8 3.9,3.8 ; 3.4,2.9 4.4,2.9 ; 4.9,3.8 5.9,3.8 ; 5.4,2.9 6.4,2.9 ; 6.9,3.8 7.9,3.8 ; 7.4,2.9 8.4,2.9 ; 8.9,3.8 9.9,3.8 ; 9.4,2.9 10.4,2.9 ; 10.9,3.8 11.9,3.8 ; 11.4,2.9 12.4,2.9 ; 12.9,3.8 13.9,3.8 ; 13.4,2.9 14.4,2.9 ; 14.9,3.8 15.9,3.8 ; 15.4,2.9 16.4,2.9 ; 16.9,3.8 17.9,3.8 ; 17.4,2.9 18.4,2.9 ; 18.9,3.8 19.9,3.8 ; 19.4,2.9 20.4,2.9 ; 19.5,0 20,0 ; 20,-0.5 20,0 ; 20,0.5 20,0 ; 20.5,0 20,0 ; 20.9,3.8 21.9,3.8 ; 21.4,2.9 22.4,2.9 ; 22.9,3.8 23.9,3.8 ; 23.4,2.9 24.4,2.9 ; 24.9,3.8 25.9,3.8 ; 25.4,2.9 26.4,2.9 ; 26.9,3.8 27.9,3.8 ; 27.4,2.9 28.4,2.9 ; 28.9,3.8 29.9,3.8 ; 29.4,2.9 30.4,2.9 ; 30.9,3.8 31.9,3.8 ; 31.4,2.9 32.4,2.9 ; 32.9,3.8 33.9,3.8 ; 33.4,2.9 34.4,2.9 ; 34.9,3.8 35.9,3.8 ; 35.4,2.9 36.4,2.9 ; 36.9,3.8 37.9,3.8 ; 37.4,2.9 38.4,2.9 ; 38.9,3.8 39.9,3.8 ; 39.4,2.9 40.4,2.9 ; 40.9,3.8 41.9,3.8 ; 41.4,2.9 42.4,2.9 ; 42.9,3.8 43.9,3.8 ; 43.4,2.9 44.4,2.9 ; 44.9,3.8 45.9,3.8 ; 45.4,2.9 46.4,2.9 ; 46.9,3.8 47.9,3.8 ; 47.4,2.9 48.4,2.9 ; 48.9,3.8 49.9,3.8 ; 49.4,2.9 50.4,2.9 ; 50.9,3.8 51.9,3.8 ; 51.4,2.9 52.4,2.9 ; 52.9,3.8 53.9,3.8 ; 53.4,2.9 54.4,2.9 ; 54.9,3.8 55.9,3.8 ; 55.4,2.9 56.4,2.9 ; 56.9,3.8 57.9,3.8 ; 57.4,2.9 58.4,2.9 ; 58.9,3.8 59.9,3.8 ; 59.4,2.9 60.4,2.9 ; 60.9,3.8 61.9,3.8 ; 61.4,2.9 62.4,2.9 ; 62.9,3.8 63.9,3.8 ; 63.4,2.9 64.4,2.9 ; 64.9,3.8 65.9,3.8 ; 65.4,2.9 66.4,2.9 ; 66.9,3.8 67.9,3.8 ; 67.4,2.9 68.4,2.9 ; 68.9,3.8 69.9,3.8 ; 69.4,2.9 70.4,2.9 ; 70.9,3.8 71.9,3.8 ; 71.4,2.9 72.4,2.9 ; 72.9,3.8 73.9,3.8 ; 73.4,2.9 74.4,2.9 ; 74.9,3.8 75.9,3.8 ; 75.4,2.9 76.4,2.9 ; 75.7,0 76.2,0 ; 76.2,-0.5 76.2,0 ; 76.2,0.5 76.2,0 ; 76.7,0 76.2,0 ; 76.9,3.8 77.9,3.8 ; 77.4,2.9 78.4,2.9 ; 78.9,3.8 79.9,3.8 ; 79.4,2.9 79.9,2.9
Mechanical 14:
  lines w0.1: -73,15 -73,12.2 -56.063,12.2 cw(c-56.063,8.2) -52.2,9.235 -50.8,4.012 ccw(c-49.351,4.4) -49.351,2.9 -47.768,2.9 -46.8,5.3 -47.8,5.3 ; -53.803,11.5 -57.1,11.5 ; -50.765,3.9 -57.1,3.9 -57.1,11.5 ; -47.365,3.9 -17.9,3.9 -17.9,12.5 ; -47.025,3.9 -38.569,-0.982 -37.444,-1.632 ccw(c-36.444,0.1) -36.444,-1.9 -33.9,-1.9 -33.9,-0.982 -33.9,-0.6 -34.4,-0.1 -34.4,2.7 -34.813,3.9 ; -45.211,11.472 cw(c-44.8,8.5) -44.8,11.5 -42.3,11.5 -42.3,5.3 -47.8,5.3 ; -45.188,11.5 -31.1,11.5 -31.1,13.557 -28.6,15 -30.3,14.019 -30.3,12.5 -0.477,12.5 14.423,5.8 79.9,5.8 ; -42.868,1.5 -93.1,1.5 -93.1,8 ; -34.4,1.5 -25.7,1.5 ; -31,15 -32.7,14.019 -32.7,12.2 -43.668,12.2 ccw(c-43.668,10.2) -45.523,10.948 -47.8,5.3 ; -27.5,3.9 -25.993,2.393 cw(c-26.7,1.686) -25.7,1.686 -25.7,-1.194 ccw(c-24.693,-1.197) -24.6,-2.2 ccw(c-24.6,0.3) -22.1,0.3 -22.1,3.9 ; -22.1,1.5 -8.3,1.5 ; -93.1,8 -78.5,15 ; -93.1,8 -93.1,6.022 ccw(c-92.6,6.022) -92.384,5.571 -79.432,11.781 cw(c-79,10.879) -78,10.879 -78,10 ccw(c-77,10) -77,9 -57.1,9 -57.1,11.5 ; -78.5,15 0,15 14.9,8.3 79.9,8.3 79.9,-2.7 -8.3,-2.7 ; -78.5,15 -75.5,15 -75.5,11.5 -57.1,11.5 ; -8.3,-2.7 -8.3,1.5 ; -8.3,-2.7 -8.3,1.5 ; -1.52,-1.3 cw(c0,0) -1.52,1.3 1.52,1.3 cw(c0,0) 1.52,-1.3 -1.52,-1.3 ; 18.48,-1.3 cw(c20,0) 18.48,1.3 21.52,1.3 cw(c20,0) 21.52,-1.3 18.48,-1.3 ; 74.68,-1.3 cw(c76.2,0) 74.68,1.3 77.72,1.3 cw(c76.2,0) 77.72,-1.3 74.68,-1.3
3D body "SCHROFF_20800-212_Top.stp": height 12.5, standoff -3.5, extent -93.1,-2.7 79.9,15